# Altium footprint library IPC-7353 TSSOP_50P_M.PcbLib: 11 footprints
Each footprint in its own frame and in the unit in brackets; x right, y up, seen from the top. Pads: shape width x height; smd on the part's side, far side on the other; paste and mask are expansions set on the pad; w line width, h text height; cw(c..) or ccw(c..) is an arc to the next point about the centre after c.
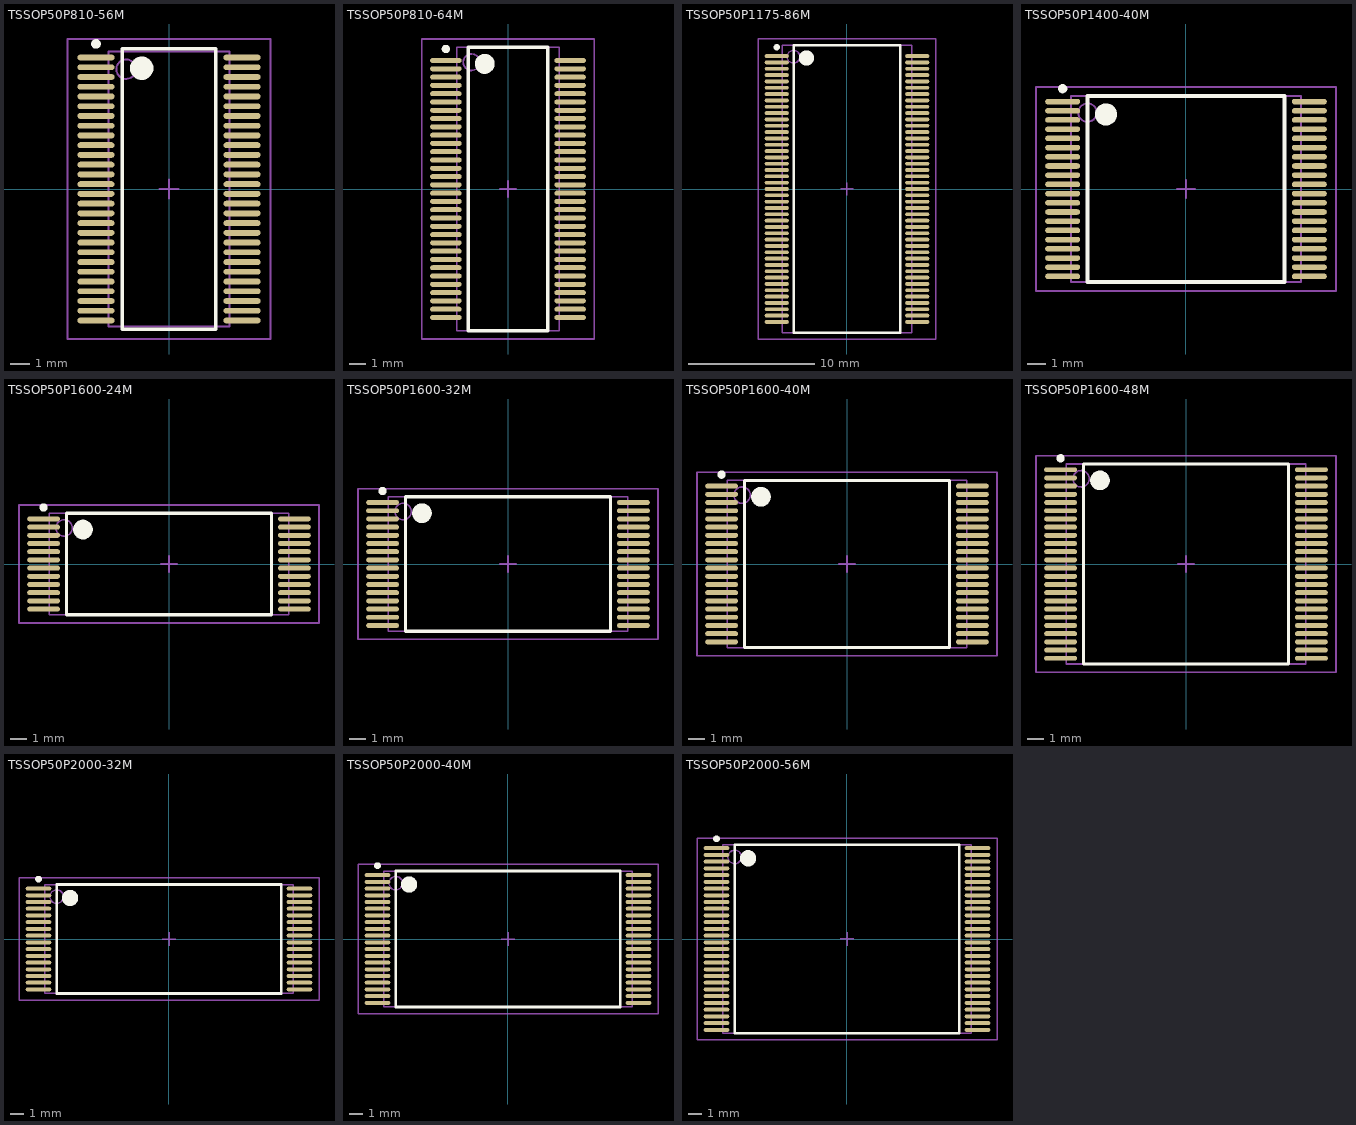
[diagram p0: the footprints below, top view; thin cyan lines are the x and y axes]

## TSSOP50P810-56M [mm] "TSSOP, 56-Leads, Body 14x6.1mm, Pitch 0.5mm, IPC Low Density"
height 1.2
pads (56):
  oval 1.9x0.3 smd: 1(-3.75,6.75) 2(-3.75,6.25) 3(-3.75,5.75) 4(-3.75,5.25) 5(-3.75,4.75) 6(-3.75,4.25) 7(-3.75,3.75) 8(-3.75,3.25) 9(-3.75,2.75) 10(-3.75,2.25) 11(-3.75,1.75) 12(-3.75,1.25) 13(-3.75,0.75) 14(-3.75,0.25) 15(-3.75,-0.25) 16(-3.75,-0.75) 17(-3.75,-1.25) 18(-3.75,-1.75) 19(-3.75,-2.25) 20(-3.75,-2.75) 21(-3.75,-3.25) 22(-3.75,-3.75) 23(-3.75,-4.25) 24(-3.75,-4.75) 25(-3.75,-5.25) 26(-3.75,-5.75) 27(-3.75,-6.25) 28(-3.75,-6.75) 29(3.75,-6.75) 30(3.75,-6.25) 31(3.75,-5.75) 32(3.75,-5.25) 33(3.75,-4.75) 34(3.75,-4.25) 35(3.75,-3.75) 36(3.75,-3.25) 37(3.75,-2.75) 38(3.75,-2.25) 39(3.75,-1.75) 40(3.75,-1.25) 41(3.75,-0.75) 42(3.75,-0.25) 43(3.75,0.25) 44(3.75,0.75) 45(3.75,1.25) 46(3.75,1.75) 47(3.75,2.25) 48(3.75,2.75) 49(3.75,3.25) 50(3.75,3.75) 51(3.75,4.25) 52(3.75,4.75) 53(3.75,5.25) 54(3.75,5.75) 55(3.75,6.25) 56(3.75,6.75)
Top Overlay:
  circle w0.25: c-3.75,7.45 r0.125
  circle w0.6: c-1.4,6.2 r0.3
  lines w0.2: -2.4,-7.2 -2.4,7.2 2.4,7.2 2.4,-7.2 -2.4,-7.2
Mechanical 13:
  circle w0.1: c-2.2,6.15 r0.5
  lines w0.1: -3.1,-7.05 -3.1,7.05 3.1,7.05 3.1,-7.05 -3.1,-7.05
Mechanical 15:
  lines w0.1: -0.5,0 0.5,0 ; 0,-0.5 0,0.5 ; -5.2,-7.7 -5.2,7.7 5.2,7.7 5.2,-7.7 -5.2,-7.7
3D body: height 1.2, standoff 0, extent -3.1,-7.05 3.1,7.05

## TSSOP50P810-64M [mm] "TSSOP, 64-Leads, Body 17x6.1mm, Pitch 0.5mm, IPC Low Density"
height 1.2
pads (64):
  oval 1.9x0.3 smd: 1(-3.75,7.75) 2(-3.75,7.25) 3(-3.75,6.75) 4(-3.75,6.25) 5(-3.75,5.75) 6(-3.75,5.25) 7(-3.75,4.75) 8(-3.75,4.25) 9(-3.75,3.75) 10(-3.75,3.25) 11(-3.75,2.75) 12(-3.75,2.25) 13(-3.75,1.75) 14(-3.75,1.25) 15(-3.75,0.75) 16(-3.75,0.25) 17(-3.75,-0.25) 18(-3.75,-0.75) 19(-3.75,-1.25) 20(-3.75,-1.75) 21(-3.75,-2.25) 22(-3.75,-2.75) 23(-3.75,-3.25) 24(-3.75,-3.75) 25(-3.75,-4.25) 26(-3.75,-4.75) 27(-3.75,-5.25) 28(-3.75,-5.75) 29(-3.75,-6.25) 30(-3.75,-6.75) 31(-3.75,-7.25) 32(-3.75,-7.75) 33(3.75,-7.75) 34(3.75,-7.25) 35(3.75,-6.75) 36(3.75,-6.25) 37(3.75,-5.75) 38(3.75,-5.25) 39(3.75,-4.75) 40(3.75,-4.25) 41(3.75,-3.75) 42(3.75,-3.25) 43(3.75,-2.75) 44(3.75,-2.25) 45(3.75,-1.75) 46(3.75,-1.25) 47(3.75,-0.75) 48(3.75,-0.25) 49(3.75,0.25) 50(3.75,0.75) 51(3.75,1.25) 52(3.75,1.75) 53(3.75,2.25) 54(3.75,2.75) 55(3.75,3.25) 56(3.75,3.75) 57(3.75,4.25) 58(3.75,4.75) 59(3.75,5.25) 60(3.75,5.75) 61(3.75,6.25) 62(3.75,6.75) 63(3.75,7.25) 64(3.75,7.75)
Top Overlay:
  circle w0.6: c-1.4,7.55 r0.3
  circle w0.25: c-3.75,8.45 r0.125
  lines w0.2: -2.4,-8.55 2.4,-8.55 2.4,8.55 -2.4,8.55 -2.4,-8.55
Mechanical 13:
  circle w0.1: c-2.2,7.65 r0.5
  lines w0.1: -3.1,-8.55 3.1,-8.55 3.1,8.55 -3.1,8.55 -3.1,-8.55
Mechanical 15:
  lines w0.1: -0.5,0 0.5,0 ; 0,-0.5 0,0.5 ; -5.2,-9.05 5.2,-9.05 5.2,9.05 -5.2,9.05 -5.2,-9.05
3D body: height 1.2, standoff 0, extent -3.1,-8.55 3.1,8.55

## TSSOP50P1175-86M [mm] "TSSOP, 86-Leads, Body 22.2x10.2mm, Pitch 0.5mm, IPC Low Density"
height 1.2
pads (86):
  oval 1.9x0.3 smd: 1(-5.55,10.5) 2(-5.55,10) 3(-5.55,9.5) 4(-5.55,9) 5(-5.55,8.5) 6(-5.55,8) 7(-5.55,7.5) 8(-5.55,7) 9(-5.55,6.5) 10(-5.55,6) 11(-5.55,5.5) 12(-5.55,5) 13(-5.55,4.5) 14(-5.55,4) 15(-5.55,3.5) 16(-5.55,3) 17(-5.55,2.5) 18(-5.55,2) 19(-5.55,1.5) 20(-5.55,1) 21(-5.55,0.5) 22(-5.55,0) 23(-5.55,-0.5) 24(-5.55,-1) 25(-5.55,-1.5) 26(-5.55,-2) 27(-5.55,-2.5) 28(-5.55,-3) 29(-5.55,-3.5) 30(-5.55,-4) 31(-5.55,-4.5) 32(-5.55,-5) 33(-5.55,-5.5) 34(-5.55,-6) 35(-5.55,-6.5) 36(-5.55,-7) 37(-5.55,-7.5) 38(-5.55,-8) 39(-5.55,-8.5) 40(-5.55,-9) 41(-5.55,-9.5) 42(-5.55,-10) 43(-5.55,-10.5) 44(5.55,-10.5) 45(5.55,-10) 46(5.55,-9.5) 47(5.55,-9) 48(5.55,-8.5) 49(5.55,-8) 50(5.55,-7.5) 51(5.55,-7) 52(5.55,-6.5) 53(5.55,-6) 54(5.55,-5.5) 55(5.55,-5) 56(5.55,-4.5) 57(5.55,-4) 58(5.55,-3.5) 59(5.55,-3) 60(5.55,-2.5) 61(5.55,-2) 62(5.55,-1.5) 63(5.55,-1) 64(5.55,-0.5) 65(5.55,0) 66(5.55,0.5) 67(5.55,1) 68(5.55,1.5) 69(5.55,2) 70(5.55,2.5) 71(5.55,3) 72(5.55,3.5) 73(5.55,4) 74(5.55,4.5) 75(5.55,5) 76(5.55,5.5) 77(5.55,6) 78(5.55,6.5) 79(5.55,7) 80(5.55,7.5) 81(5.55,8) 82(5.55,8.5) 83(5.55,9) 84(5.55,9.5) 85(5.55,10) 86(5.55,10.5)
Top Overlay:
  circle w0.6: c-3.2,10.35 r0.3
  circle w0.25: c-5.55,11.2 r0.125
  lines w0.2: -4.2,-11.35 4.2,-11.35 4.2,11.35 -4.2,11.35 -4.2,-11.35
Mechanical 13:
  circle w0.1: c-4.225,10.45 r0.5
  lines w0.1: -5.125,-11.35 5.125,-11.35 5.125,11.35 -5.125,11.35 -5.125,-11.35
Mechanical 15:
  lines w0.1: -0.5,0 0.5,0 ; 0,-0.5 0,0.5 ; -7,-11.85 7,-11.85 7,11.85 -7,11.85 -7,-11.85
3D body: height 1.2, standoff 0, extent -5.125,-11.35 5.125,11.35

## TSSOP50P1400-40M [mm] "TSSOP, 40-Leads, Body 10x14.4mm, Pitch 0.5mm, IPC Low Density"
height 1.2
pads (40):
  oval 1.9x0.3 smd: 1(-6.7,4.75) 2(-6.7,4.25) 3(-6.7,3.75) 4(-6.7,3.25) 5(-6.7,2.75) 6(-6.7,2.25) 7(-6.7,1.75) 8(-6.7,1.25) 9(-6.7,0.75) 10(-6.7,0.25) 11(-6.7,-0.25) 12(-6.7,-0.75) 13(-6.7,-1.25) 14(-6.7,-1.75) 15(-6.7,-2.25) 16(-6.7,-2.75) 17(-6.7,-3.25) 18(-6.7,-3.75) 19(-6.7,-4.25) 20(-6.7,-4.75) 21(6.7,-4.75) 22(6.7,-4.25) 23(6.7,-3.75) 24(6.7,-3.25) 25(6.7,-2.75) 26(6.7,-2.25) 27(6.7,-1.75) 28(6.7,-1.25) 29(6.7,-0.75) 30(6.7,-0.25) 31(6.7,0.25) 32(6.7,0.75) 33(6.7,1.25) 34(6.7,1.75) 35(6.7,2.25) 36(6.7,2.75) 37(6.7,3.25) 38(6.7,3.75) 39(6.7,4.25) 40(6.7,4.75)
Top Overlay:
  circle w0.6: c-4.35,4.05 r0.3
  circle w0.25: c-6.7,5.45 r0.125
  lines w0.2: -5.35,-5.05 5.35,-5.05 5.35,5.05 -5.35,5.05 -5.35,-5.05
Mechanical 13:
  circle w0.1: c-5.35,4.15 r0.5
  lines w0.1: -6.25,-5.05 6.25,-5.05 6.25,5.05 -6.25,5.05 -6.25,-5.05
Mechanical 15:
  lines w0.1: -0.5,0 0.5,0 ; 0,-0.5 0,0.5 ; -8.15,-5.55 8.15,-5.55 8.15,5.55 -8.15,5.55 -8.15,-5.55
3D body: height 1.2, standoff 0, extent -6.25,-5.05 6.25,5.05

## TSSOP50P1600-24M [mm] "TSSOP, 24-Leads, Body 6x14.4mm, Pitch 0.5mm, IPC Low Density"
height 1.27
pads (24):
  oval 2x0.3 smd: 1(-7.65,2.75) 2(-7.65,2.25) 3(-7.65,1.75) 4(-7.65,1.25) 5(-7.65,0.75) 6(-7.65,0.25) 7(-7.65,-0.25) 8(-7.65,-0.75) 9(-7.65,-1.25) 10(-7.65,-1.75) 11(-7.65,-2.25) 12(-7.65,-2.75) 13(7.65,-2.75) 14(7.65,-2.25) 15(7.65,-1.75) 16(7.65,-1.25) 17(7.65,-0.75) 18(7.65,-0.25) 19(7.65,0.25) 20(7.65,0.75) 21(7.65,1.25) 22(7.65,1.75) 23(7.65,2.25) 24(7.65,2.75)
Top Overlay:
  circle w0.6: c-5.25,2.1 r0.3
  circle w0.25: c-7.65,3.45 r0.125
  lines w0.2: -6.25,-3.1 6.25,-3.1 6.25,3.1 -6.25,3.1 -6.25,-3.1
Mechanical 13:
  circle w0.1: c-6.4,2.2 r0.5
  lines w0.1: -7.3,-3.1 7.3,-3.1 7.3,3.1 -7.3,3.1 -7.3,-3.1
Mechanical 15:
  lines w0.1: -0.5,0 0.5,0 ; 0,-0.5 0,0.5 ; -9.15,-3.6 9.15,-3.6 9.15,3.6 -9.15,3.6 -9.15,-3.6
3D body: height 1.27, standoff 0, extent -7.3,-3.1 7.3,3.1

## TSSOP50P1600-32M [mm] "TSSOP, 32-Leads, Body 8x14.4mm, Pitch 0.5mm, IPC Low Density"
height 1.27
pads (32):
  oval 2x0.3 smd: 1(-7.65,3.75) 2(-7.65,3.25) 3(-7.65,2.75) 4(-7.65,2.25) 5(-7.65,1.75) 6(-7.65,1.25) 7(-7.65,0.75) 8(-7.65,0.25) 9(-7.65,-0.25) 10(-7.65,-0.75) 11(-7.65,-1.25) 12(-7.65,-1.75) 13(-7.65,-2.25) 14(-7.65,-2.75) 15(-7.65,-3.25) 16(-7.65,-3.75) 17(7.65,-3.75) 18(7.65,-3.25) 19(7.65,-2.75) 20(7.65,-2.25) 21(7.65,-1.75) 22(7.65,-1.25) 23(7.65,-0.75) 24(7.65,-0.25) 25(7.65,0.25) 26(7.65,0.75) 27(7.65,1.25) 28(7.65,1.75) 29(7.65,2.25) 30(7.65,2.75) 31(7.65,3.25) 32(7.65,3.75)
Top Overlay:
  circle w0.6: c-5.25,3.1 r0.3
  circle w0.25: c-7.65,4.45 r0.125
  lines w0.2: -6.25,-4.1 6.25,-4.1 6.25,4.1 -6.25,4.1 -6.25,-4.1
Mechanical 13:
  circle w0.1: c-6.4,3.2 r0.5
  lines w0.1: -7.3,-4.1 7.3,-4.1 7.3,4.1 -7.3,4.1 -7.3,-4.1
Mechanical 15:
  lines w0.1: -0.5,0 0.5,0 ; 0,-0.5 0,0.5 ; -9.15,-4.6 9.15,-4.6 9.15,4.6 -9.15,4.6 -9.15,-4.6
3D body: height 1.27, standoff 0, extent -7.3,-4.1 7.3,4.1

## TSSOP50P1600-40M [mm] "TSSOP, 40-Leads, Body 10x14.4mm, Pitch 0.5mm, IPC Low Density"
height 1.27
pads (40):
  oval 2x0.3 smd: 1(-7.65,4.75) 2(-7.65,4.25) 3(-7.65,3.75) 4(-7.65,3.25) 5(-7.65,2.75) 6(-7.65,2.25) 7(-7.65,1.75) 8(-7.65,1.25) 9(-7.65,0.75) 10(-7.65,0.25) 11(-7.65,-0.25) 12(-7.65,-0.75) 13(-7.65,-1.25) 14(-7.65,-1.75) 15(-7.65,-2.25) 16(-7.65,-2.75) 17(-7.65,-3.25) 18(-7.65,-3.75) 19(-7.65,-4.25) 20(-7.65,-4.75) 21(7.65,-4.75) 22(7.65,-4.25) 23(7.65,-3.75) 24(7.65,-3.25) 25(7.65,-2.75) 26(7.65,-2.25) 27(7.65,-1.75) 28(7.65,-1.25) 29(7.65,-0.75) 30(7.65,-0.25) 31(7.65,0.25) 32(7.65,0.75) 33(7.65,1.25) 34(7.65,1.75) 35(7.65,2.25) 36(7.65,2.75) 37(7.65,3.25) 38(7.65,3.75) 39(7.65,4.25) 40(7.65,4.75)
Top Overlay:
  circle w0.6: c-5.25,4.1 r0.3
  circle w0.25: c-7.65,5.45 r0.125
  lines w0.2: -6.25,-5.1 6.25,-5.1 6.25,5.1 -6.25,5.1 -6.25,-5.1
Mechanical 13:
  circle w0.1: c-6.4,4.2 r0.5
  lines w0.1: -7.3,-5.1 7.3,-5.1 7.3,5.1 -7.3,5.1 -7.3,-5.1
Mechanical 15:
  lines w0.1: -0.5,0 0.5,0 ; 0,-0.5 0,0.5 ; -9.15,-5.6 9.15,-5.6 9.15,5.6 -9.15,5.6 -9.15,-5.6
3D body: height 1.27, standoff 0, extent -7.3,-5.1 7.3,5.1

## TSSOP50P1600-48M [mm] "TSSOP, 48-Leads, Body 12x14.4mm, Pitch 0.5mm, IPC Low Density"
height 1.27
pads (48):
  oval 2x0.3 smd: 1(-7.65,5.75) 2(-7.65,5.25) 3(-7.65,4.75) 4(-7.65,4.25) 5(-7.65,3.75) 6(-7.65,3.25) 7(-7.65,2.75) 8(-7.65,2.25) 9(-7.65,1.75) 10(-7.65,1.25) 11(-7.65,0.75) 12(-7.65,0.25) 13(-7.65,-0.25) 14(-7.65,-0.75) 15(-7.65,-1.25) 16(-7.65,-1.75) 17(-7.65,-2.25) 18(-7.65,-2.75) 19(-7.65,-3.25) 20(-7.65,-3.75) 21(-7.65,-4.25) 22(-7.65,-4.75) 23(-7.65,-5.25) 24(-7.65,-5.75) 25(7.65,-5.75) 26(7.65,-5.25) 27(7.65,-4.75) 28(7.65,-4.25) 29(7.65,-3.75) 30(7.65,-3.25) 31(7.65,-2.75) 32(7.65,-2.25) 33(7.65,-1.75) 34(7.65,-1.25) 35(7.65,-0.75) 36(7.65,-0.25) 37(7.65,0.25) 38(7.65,0.75) 39(7.65,1.25) 40(7.65,1.75) 41(7.65,2.25) 42(7.65,2.75) 43(7.65,3.25) 44(7.65,3.75) 45(7.65,4.25) 46(7.65,4.75) 47(7.65,5.25) 48(7.65,5.75)
Top Overlay:
  circle w0.6: c-5.25,5.1 r0.3
  circle w0.25: c-7.65,6.45 r0.125
  lines w0.2: -6.25,-6.1 6.25,-6.1 6.25,6.1 -6.25,6.1 -6.25,-6.1
Mechanical 13:
  circle w0.1: c-6.4,5.2 r0.5
  lines w0.1: -7.3,-6.1 7.3,-6.1 7.3,6.1 -7.3,6.1 -7.3,-6.1
Mechanical 15:
  lines w0.1: -0.5,0 0.5,0 ; 0,-0.5 0,0.5 ; -9.15,-6.6 9.15,-6.6 9.15,6.6 -9.15,6.6 -9.15,-6.6
3D body: height 1.27, standoff 0, extent -7.3,-6.1 7.3,6.1

## TSSOP50P2000-32M [mm] "TSSOP, 32-Leads, Body 8x18.4mm, Pitch 0.5mm, IPC Low Density"
height 1.2
pads (32):
  oval 1.9x0.3 smd: 1(-9.7,3.75) 2(-9.7,3.25) 3(-9.7,2.75) 4(-9.7,2.25) 5(-9.7,1.75) 6(-9.7,1.25) 7(-9.7,0.75) 8(-9.7,0.25) 9(-9.7,-0.25) 10(-9.7,-0.75) 11(-9.7,-1.25) 12(-9.7,-1.75) 13(-9.7,-2.25) 14(-9.7,-2.75) 15(-9.7,-3.25) 16(-9.7,-3.75) 17(9.7,-3.75) 18(9.7,-3.25) 19(9.7,-2.75) 20(9.7,-2.25) 21(9.7,-1.75) 22(9.7,-1.25) 23(9.7,-0.75) 24(9.7,-0.25) 25(9.7,0.25) 26(9.7,0.75) 27(9.7,1.25) 28(9.7,1.75) 29(9.7,2.25) 30(9.7,2.75) 31(9.7,3.25) 32(9.7,3.75)
Top Overlay:
  circle w0.6: c-7.35,3.05 r0.3
  circle w0.25: c-9.7,4.45 r0.125
  lines w0.2: -8.35,-4.05 8.35,-4.05 8.35,4.05 -8.35,4.05 -8.35,-4.05
Mechanical 13:
  circle w0.1: c-8.35,3.15 r0.5
  lines w0.1: -9.25,-4.05 9.25,-4.05 9.25,4.05 -9.25,4.05 -9.25,-4.05
Mechanical 15:
  lines w0.1: -0.5,0 0.5,0 ; 0,-0.5 0,0.5 ; -11.15,-4.55 11.15,-4.55 11.15,4.55 -11.15,4.55 -11.15,-4.55
3D body: height 1.2, standoff 0, extent -9.25,-4.05 9.25,4.05

## TSSOP50P2000-40M [mm] "TSSOP, 40-Leads, Body 10x18.4mm, Pitch 0.5mm, IPC Low Density"
height 1.2
pads (40):
  oval 1.9x0.3 smd: 1(-9.7,4.75) 2(-9.7,4.25) 3(-9.7,3.75) 4(-9.7,3.25) 5(-9.7,2.75) 6(-9.7,2.25) 7(-9.7,1.75) 8(-9.7,1.25) 9(-9.7,0.75) 10(-9.7,0.25) 11(-9.7,-0.25) 12(-9.7,-0.75) 13(-9.7,-1.25) 14(-9.7,-1.75) 15(-9.7,-2.25) 16(-9.7,-2.75) 17(-9.7,-3.25) 18(-9.7,-3.75) 19(-9.7,-4.25) 20(-9.7,-4.75) 21(9.7,-4.75) 22(9.7,-4.25) 23(9.7,-3.75) 24(9.7,-3.25) 25(9.7,-2.75) 26(9.7,-2.25) 27(9.7,-1.75) 28(9.7,-1.25) 29(9.7,-0.75) 30(9.7,-0.25) 31(9.7,0.25) 32(9.7,0.75) 33(9.7,1.25) 34(9.7,1.75) 35(9.7,2.25) 36(9.7,2.75) 37(9.7,3.25) 38(9.7,3.75) 39(9.7,4.25) 40(9.7,4.75)
Top Overlay:
  circle w0.6: c-7.35,4.05 r0.3
  circle w0.25: c-9.7,5.45 r0.125
  lines w0.2: -8.35,-5.05 8.35,-5.05 8.35,5.05 -8.35,5.05 -8.35,-5.05
Mechanical 13:
  circle w0.1: c-8.35,4.15 r0.5
  lines w0.1: -9.25,-5.05 9.25,-5.05 9.25,5.05 -9.25,5.05 -9.25,-5.05
Mechanical 15:
  lines w0.1: -0.5,0 0.5,0 ; 0,-0.5 0,0.5 ; -11.15,-5.55 11.15,-5.55 11.15,5.55 -11.15,5.55 -11.15,-5.55
3D body: height 1.2, standoff 0, extent -9.25,-5.05 9.25,5.05

## TSSOP50P2000-56M [mm] "TSSOP, 56-Leads, Body 14x18.4mm, Pitch 0.5mm, IPC Low Density"
height 1.2
pads (56):
  oval 1.9x0.3 smd: 1(-9.7,6.75) 2(-9.7,6.25) 3(-9.7,5.75) 4(-9.7,5.25) 5(-9.7,4.75) 6(-9.7,4.25) 7(-9.7,3.75) 8(-9.7,3.25) 9(-9.7,2.75) 10(-9.7,2.25) 11(-9.7,1.75) 12(-9.7,1.25) 13(-9.7,0.75) 14(-9.7,0.25) 15(-9.7,-0.25) 16(-9.7,-0.75) 17(-9.7,-1.25) 18(-9.7,-1.75) 19(-9.7,-2.25) 20(-9.7,-2.75) 21(-9.7,-3.25) 22(-9.7,-3.75) 23(-9.7,-4.25) 24(-9.7,-4.75) 25(-9.7,-5.25) 26(-9.7,-5.75) 27(-9.7,-6.25) 28(-9.7,-6.75) 29(9.7,-6.75) 30(9.7,-6.25) 31(9.7,-5.75) 32(9.7,-5.25) 33(9.7,-4.75) 34(9.7,-4.25) 35(9.7,-3.75) 36(9.7,-3.25) 37(9.7,-2.75) 38(9.7,-2.25) 39(9.7,-1.75) 40(9.7,-1.25) 41(9.7,-0.75) 42(9.7,-0.25) 43(9.7,0.25) 44(9.7,0.75) 45(9.7,1.25) 46(9.7,1.75) 47(9.7,2.25) 48(9.7,2.75) 49(9.7,3.25) 50(9.7,3.75) 51(9.7,4.25) 52(9.7,4.75) 53(9.7,5.25) 54(9.7,5.75) 55(9.7,6.25) 56(9.7,6.75)
Top Overlay:
  circle w0.6: c-7.35,6 r0.3
  circle w0.25: c-9.7,7.45 r0.125
  lines w0.2: -8.35,-7 8.35,-7 8.35,7 -8.35,7 -8.35,-7
Mechanical 13:
  circle w0.1: c-8.35,6.1 r0.5
  lines w0.1: -9.25,-7 9.25,-7 9.25,7 -9.25,7 -9.25,-7
Mechanical 15:
  lines w0.1: -0.5,0 0.5,0 ; 0,-0.5 0,0.5 ; -11.15,-7.5 11.15,-7.5 11.15,7.5 -11.15,7.5 -11.15,-7.5
3D body: height 1.2, standoff 0, extent -9.25,-7 9.25,7